# Altium schematic symbol library 38312000000.SchLib: 1 symbol
Pins are listed as number, name and electrical type; pins without a type are passive.

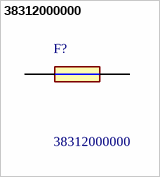
[diagram p0: symbol 38312000000]

## 38312000000
designator F?
Fuses with Leads (Through Hole) 300V UL TL TR5 LL 2A; Manufacturer_Name: LITTELFUSE; Geometry.Height: 8mm; Manufacturer_Part_Number: 38312000000; Mouser Part Number: 576-38312000000; Mouser Price/Stock: https://www.mouser.com/Search/Refine.aspx?Keyword=576-38312000000; Arrow Part Number: 38312000000; Arrow Price/Stock: https://www.arrow.com/en/products/38312000000/littelfuse; Datasheet Link: https://ms.componentsearchengine.com/Datasheets/2/38312000000.pdf
footprint 38312000000
pins: 1, 2